# Altium footprint library 10029449-001RLF.PcbLib: 2 footprints
Each footprint in its own frame and in the unit in brackets; x right, y up, seen from the top. Pads: shape width x height; smd on the part's side, far side on the other; paste and mask are expansions set on the pad; w line width, h text height; cw(c..) or ccw(c..) is an arc to the next point about the centre after c.
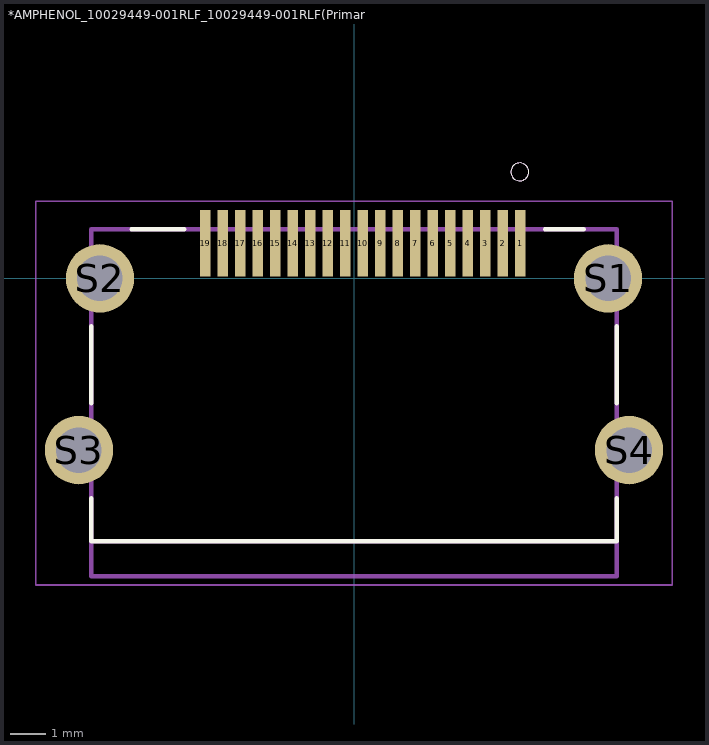
[diagram p0: the footprints below, top view; thin cyan lines are the x and y axes]

## *AMPHENOL_10029449-001RLF_10029449-001RLF(Primary) [mm]
pads (23):
  rect 0.3x1.9 smd: 1(4.75,1) 2(4.25,1) 3(3.75,1) 4(3.25,1) 5(2.75,1) 6(2.25,1) 7(1.75,1) 8(1.25,1) 9(0.75,1) 10(0.25,1) 11(-0.25,1) 12(-0.75,1) 13(-1.25,1) 14(-1.75,1) 15(-2.25,1) 16(-2.75,1) 17(-3.25,1) 18(-3.75,1) 19(-4.25,1)
  round 1.95 hole 1.3: S1(7.25,0) S2(-7.25,0) S3(-7.85,-4.9) S4(7.85,-4.9)
Top Overlay:
  circle w0: c4.73,3.04 r0.254
  lines w0.127: -7.5,-6.27 -7.5,-7.5 7.5,-7.5 7.5,-6.27 ; -7.5,-3.56 -7.5,-1.37 ; -6.35,1.4 -4.85,1.4 ; 5.45,1.4 6.55,1.4 ; 7.5,-3.56 7.5,-1.37
Mechanical 4:
  circle w0: c4.73,3.04 r0.254
  circle w0: c4.73,3.04 r0.254
  lines w0.127: -7.5,-8.5 7.5,-8.5 ; -7.5,-8.5 -7.5,-7.5 ; -7.5,-8.5 7.5,-8.5 ; -7.5,-8.5 -7.5,-7.5 ; -7.5,-7.5 -7.5,1.4 ; -7.5,-7.5 7.5,-7.5 ; -7.5,-7.5 -7.5,1.4 ; -7.5,-7.5 7.5,-7.5 ; -7.5,1.4 7.5,1.4 ; -7.5,1.4 7.5,1.4 ; 7.5,-8.5 7.5,-7.5 ; 7.5,-8.5 7.5,-7.5 ; 7.5,-7.5 7.5,1.4 ; 7.5,-7.5 7.5,1.4
  text "PCB EDGE" at -3.048,-7.593 h1.88
  text "PCB EDGE" at -3.048,-7.593 h1.88
Mechanical 16:
  lines w0.05: -9.08,-8.75 9.08,-8.75 9.08,2.2 -9.08,2.2 -9.08,-8.75

## PCBComponent_1 [mm]